# Altium footprint library XT.PcbLib: 4 footprints
Each footprint in its own frame and in the unit in brackets; x right, y up, seen from the top. Pads: shape width x height; smd on the part's side, far side on the other; paste and mask are expansions set on the pad; w line width, h text height; cw(c..) or ccw(c..) is an arc to the next point about the centre after c.
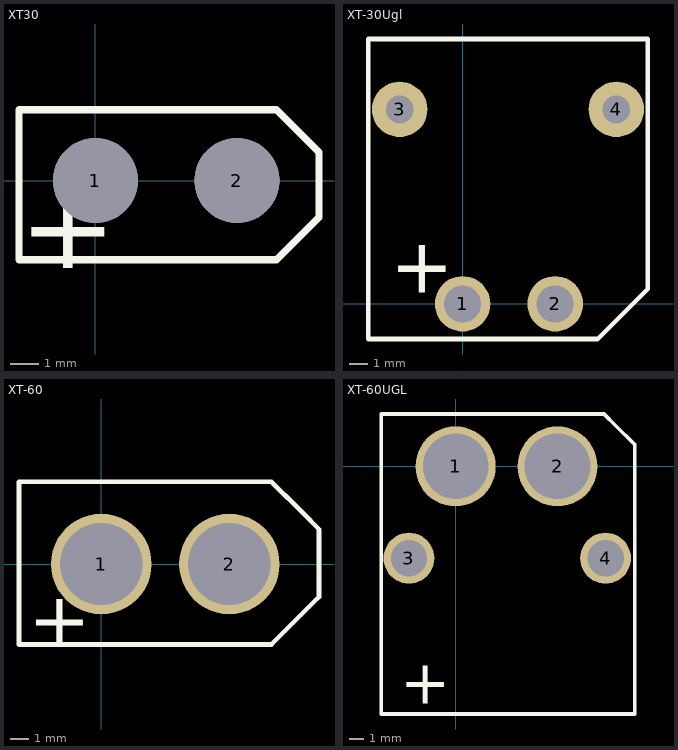
[diagram p0: the footprints below, top view; thin cyan lines are the x and y axes]

## XT30 [mm]
pads (2):
  round 3 hole 3: 1(0,0) 2(5,0)
Top Overlay:
  lines w0.254: -2.7,-2.8 -2.7,-1.525 -2.7,2.5 6.4,2.5 7.9,1 7.9,-1.3 6.4,-2.8 -2.7,-2.8
  text "+" at -2.7,-3.1 h3
3D body "User Library-XT30.step": height 12.6, standoff -2.9, extent -2.7,-2.7 7.7,2.6

## XT-30Ugl [mm]
pads (4):
  round 3 hole 2: 1(0,0) 2(5,0)
  round 3 hole 1.5: 3(-3.4,10.5) 4(8.3,10.5)
Top Overlay:
  lines w0.254: -5.1,-1.9 -5.1,0.875 -5.1,9.025 -5.1,14.3 10,14.3 10,0.8 7.3,-1.9 -5.1,-1.9
  text "+" at -3.9,0.6 h3
3D body "User Library-XT30- curved.step": height 5, standoff -2.1, extent -4.15,-0.905 9.15,14.1

## XT-60 [mm]
height 16
pads (2):
  round 5.5 hole 4.5: 1(0,0) 2(7,0)
Top Overlay:
  lines w0.254: 10.025,3.775 11,2.8 11.9,1.9 11.9,-0.425 11.9,-1.8 9.3,-4.4 -4.5,-4.4 ; 10.2,3.6 9.9,3.9 9.3,4.5 -4.5,4.5 -4.5,-4.4 ; -4.5,-4.4 -4.5,-4.4
  text "+" at -4,-4.5 h3
3D body "User Library-XT60 male.step": height 16.4, standoff -4.8, extent -4.25,-4.05 11.65,4.1

## XT-60UGL [mm]
pads (4):
  round 5.5 hole 4.5: 1(0,0) 2(7,0)
  round 3.5 hole 2.5: 3(-3.2,-6.3) 4(10.3,-6.3)
Top Overlay:
  lines w0.254: 12.2,-17 9.2,-17 -5.1,-17 -5.1,3.6 10.2,3.6 11,2.8 12.3,1.5 12.3,-0.825 12.3,-17
  text "+" at -3.8,-16.3 h3
3D body "User Library-XT60PW-M20_Connector.step": height 8.5, standoff -2.9, extent -4.4,-16.7 11.6,1.7